# EAGLE library part SAA3010 (library Radicon)
Infrared remote control transmitter RC-5 SAA3010
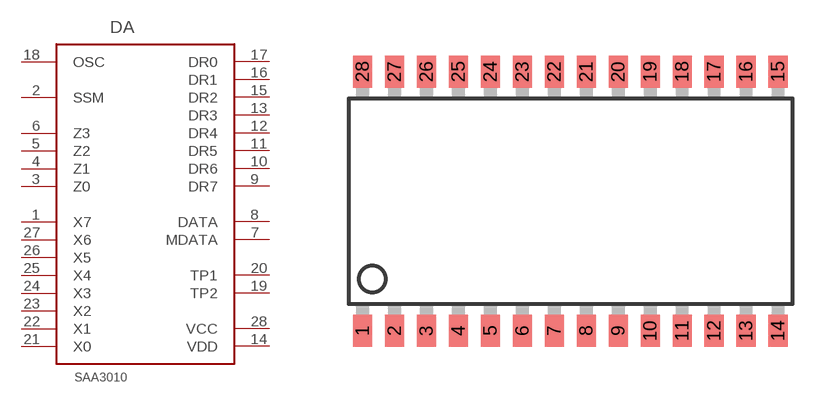
[diagram p53: symbol with the pads of SO28L; footprint SO28L]

Designator prefix DA

## SAA3010  [SO28L]
1  X7
2  SSM
3  Z0
4  Z1
5  Z2
6  Z3
7  MDATA
8  DATA
9  DR7
10  DR6
11  DR5
12  DR4
13  DR3
14  VDD
15  DR2
16  DR1
17  DR0
18  OSC
19  TP2
20  TP1
21  X0
22  X1
23  X2
24  X3
25  X4
26  X5
27  X6
28  VCC

## Footprint SO28L (pad centres in mm)
Small Outline large
smd 0.762 x 1.27: 1 -7.62,-5.207; 2 -6.35,-5.207; 3 -5.08,-5.207; 4 -3.81,-5.207; 5 -2.54,-5.207; 6 -1.27,-5.207; 7 0,-5.207; 8 1.27,-5.207; 9 2.54,-5.207; 10 3.81,-5.207; 11 5.08,-5.207; 12 6.35,-5.207; 13 7.62,-5.207; 14 8.89,-5.207; 15 8.89,5.08; 16 7.62,5.08; 17 6.35,5.08; 18 5.08,5.08; 19 3.81,5.08; 20 2.54,5.08; 21 1.27,5.08; 22 0,5.08; 23 -1.27,5.08; 24 -2.54,5.08; 25 -3.81,5.08; 26 -5.08,5.08; 27 -6.35,5.08; 28 -7.62,5.08